# EAGLE library part HN-10BLE (library ForApos)
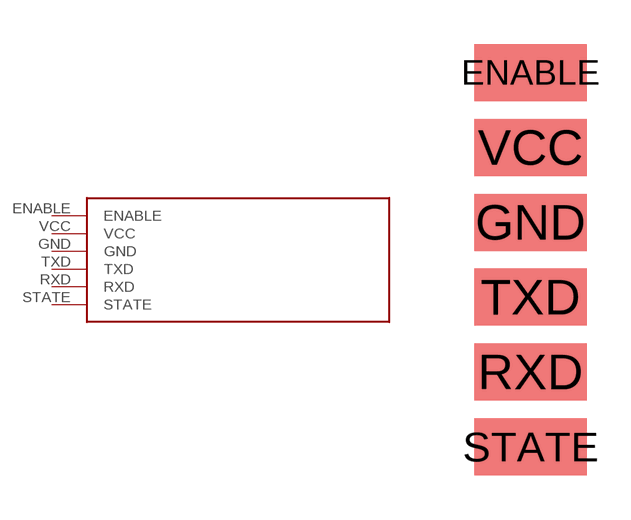
[diagram p1: symbol with the pads of HM-10FULL; footprint HM-10FULL]

Designator prefix HN10

## HN-10BLE  [HM-10FULL]
ENABLE  ENABLE
GND  GND
RXD  RXD
STATE  STATE
TXD  TXD
VCC  VCC

## Footprint HM-10FULL (pad centres in mm)
smd 3.81 x 1.93: ENABLE -3.81,6.35; GND -3.81,1.27; RXD -3.81,-3.81; STATE -3.81,-6.35; TXD -3.81,-1.27; VCC -3.81,3.81